# EAGLE library part HMC544A (library ruark2)
RF Switch IC WiMax, WLAN SPDT 4GHz 50 Ohm SOT-26
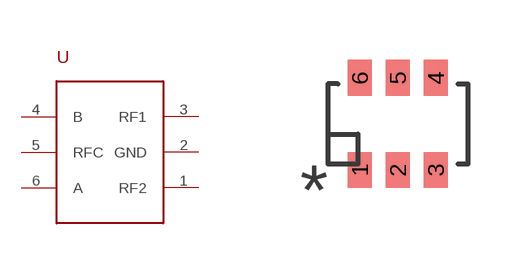
[diagram p16: symbol with the pads of SOT23-6; footprint SOT23-6]

Designator prefix U

## HMC544A (PARTNO: 1127-3066-ND)  [SOT23-6]
1  RF2
2  GND
3  RF1
4  B
5  RFC
6  A

## Footprint SOT23-6 (pad centres in mm)
smd 0.6 x 0.9: 1 -0.95,-1.15; 2 0,-1.15; 3 0.95,-1.15; 4 0.95,1.15; 5 0,1.15; 6 -0.95,1.15